# Altium footprint library Inductors THD.PcbLib: 25 footprints (part 2 of 3)
Each footprint in its own frame and in the unit in brackets; x right, y up, seen from the top. Pads: shape width x height; smd on the part's side, far side on the other; paste and mask are expansions set on the pad; w line width, h text height; cw(c..) or ccw(c..) is an arc to the next point about the centre after c.
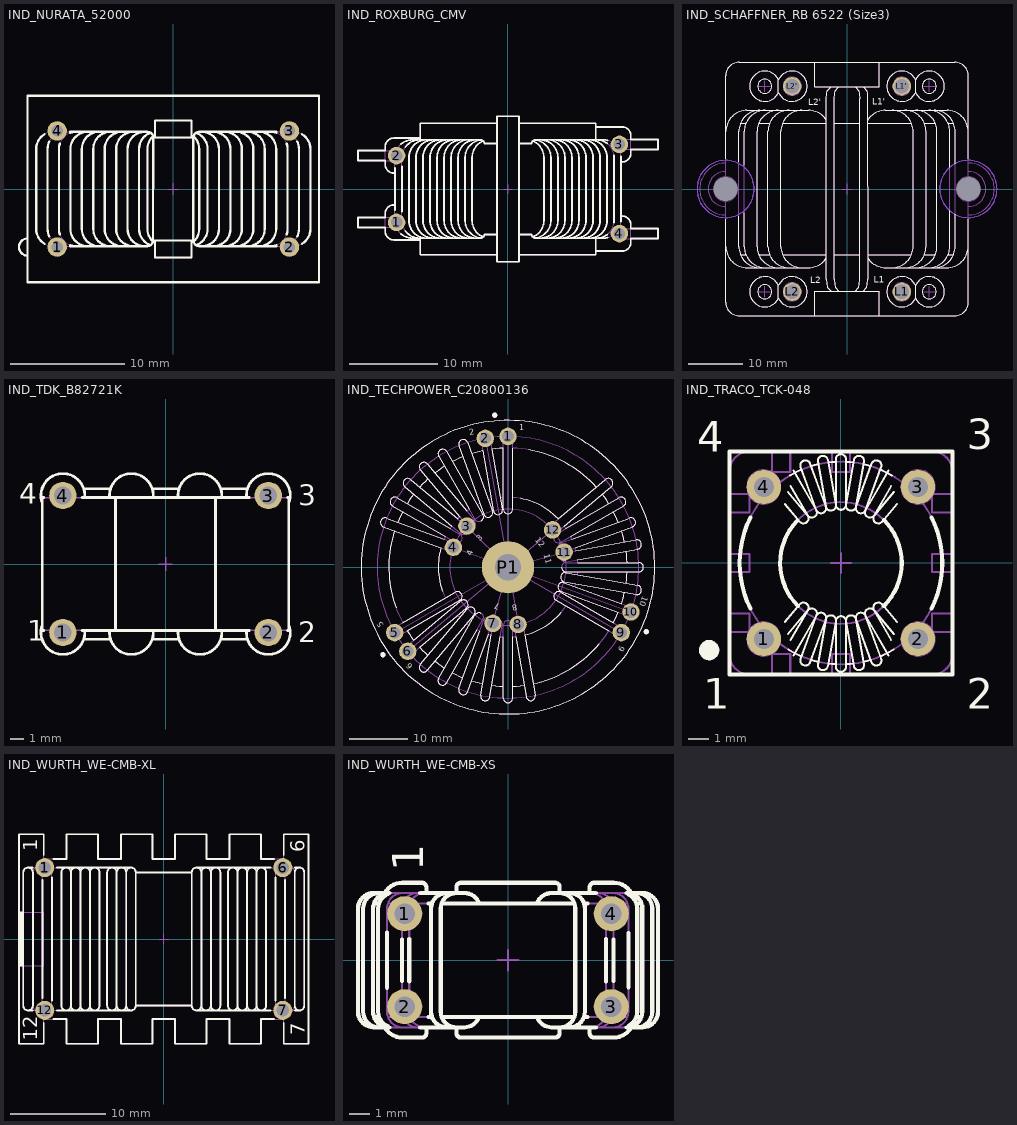
[diagram p1: the footprints below, top view; thin cyan lines are the x and y axes]

## IND_NURATA_52000 [mm] "PCB Mounted Common Mode Chokes, Body L 25.5mm x W 16.3mm x H 31mm"
height 31
pads (4):
  round 1.7 hole 1: 1(-10.16,-5.08) 2(10.16,-5.08) 3(10.16,5.08) 4(-10.16,5.08)
Top Overlay:
  lines w0.2: -12.75,-5.83 cw(c-12.75,-5.08) -12.75,-4.33 ; -11.272,-4.786 cw(c-10.5,-3.5) -12,-3.5 -12,3.5 cw(c-10.5,3.5) -11.272,4.786 ; -10.848,-4.158 cw(c-9.5,-3.5) -11,-3.5 -11,3.5 cw(c-9.5,3.5) -10.848,4.158 ; -9.93,-3.953 cw(c-8.5,-3.5) -10,-3.5 -10,3.5 cw(c-8.5,3.5) -9.93,3.953 ; -9.023,-4.906 ccw(c-8.5,-3.5) -8.5,-5 ; -9.023,4.906 cw(c-8.5,3.5) -8.5,5 ; -9.013,-5 -2.266,-5 ccw(c-2.266,-4.5) -1.766,-4.501 -1.752,4.499 ; -9.013,5 -2.252,5 cw(c-2.252,4.5) -1.752,4.499 ; -7.5,-5 cw(c-7.5,-3.5) -9,-3.5 -9,3.5 cw(c-7.5,3.5) -7.5,5 ; -6.5,-5 cw(c-6.5,-3.5) -8,-3.5 -8,3.5 cw(c-6.5,3.5) -6.5,5 ; -5.5,-5 cw(c-5.5,-3.5) -7,-3.5 -7,3.5 cw(c-5.5,3.5) -5.5,5 ; -4.5,-5 cw(c-4.5,-3.5) -6,-3.5 -6,3.5 cw(c-4.5,3.5) -4.5,5 ; -3.5,-5 cw(c-3.5,-3.5) -5,-3.5 -5,3.5 cw(c-3.5,3.5) -3.5,5 ; -2.819,-4.966 cw(c-2.5,-3.5) -4,-3.5 -4,3.5 cw(c-2.5,3.5) -2.811,4.967 ; -1.991,-4.918 cw(c-1.5,-3.5) -3,-3.5 -3,3.5 cw(c-1.5,3.5) -1.982,4.92 ; -1.777,-4.606 cw(c-0.764,-3.5) -2.264,-3.5 -2.264,3.5 cw(c-0.764,3.5) -1.766,4.616 ; -1.766,-4.5 1.759,-4.5 ; -1.6,-4.5 -1.6,-6 1.6,-6 1.6,-4.5 ; -1.6,4.5 -1.6,6 1.6,6 1.6,4.5 ; 1.773,-4.617 ccw(c0.772,-3.5) 2.272,-3.5 2.272,3.5 ccw(c0.772,3.5) 1.773,4.617 ; 1.986,-4.919 ccw(c1.5,-3.5) 3,-3.5 3,3.5 ccw(c1.5,3.5) 1.986,4.919 ; 2.81,-4.968 ccw(c2.5,-3.5) 4,-3.5 4,3.5 ccw(c2.5,3.5) 2.81,4.968 ; 3.5,-5 ccw(c3.5,-3.5) 5,-3.5 5,3.5 ccw(c3.5,3.5) 3.5,5 ; 4.5,-5 ccw(c4.5,-3.5) 6,-3.5 6,3.5 ccw(c4.5,3.5) 4.5,5 ; 5.5,-5 ccw(c5.5,-3.5) 7,-3.5 7,3.5 ccw(c5.5,3.5) 5.5,5 ; 6.5,-5 ccw(c6.5,-3.5) 8,-3.5 8,3.5 ccw(c6.5,3.5) 6.5,5 ; 7.5,-5 ccw(c7.5,-3.5) 9,-3.5 9,3.5 ccw(c7.5,3.5) 7.5,5 ; 8.5,-5 ccw(c8.5,-3.5) 9.023,-4.906 ; 8.5,5 cw(c8.5,3.5) 9.023,4.906 ; 9.013,-5 2.259,-5 cw(c2.259,-4.5) 1.759,-4.5 ; 9.013,5 2.259,5 ccw(c2.259,4.5) 1.759,4.5 ; 9.93,-3.953 ccw(c8.5,-3.5) 10,-3.5 10,3.5 ccw(c8.5,3.5) 9.93,3.953 ; 10.848,-4.158 ccw(c9.5,-3.5) 11,-3.5 11,3.5 ccw(c9.5,3.5) 10.848,4.158 ; 11.272,-4.786 ccw(c10.5,-3.5) 12,-3.5 12,3.5 ccw(c10.5,3.5) 11.272,4.786 ; -1.752,4.5 1.759,4.5 ; 1.759,-4.5 1.759,4.5 ; -12.75,-8.15 -12.75,8.15 12.75,8.15 12.75,-8.15 -12.75,-8.15
Mechanical 8:
  lines w0.1: -10.66,-5.08 -10.16,-5.08 ; -10.66,5.08 -10.16,5.08 ; -10.16,-5.58 -10.16,-5.08 ; -10.16,-4.58 -10.16,-5.08 ; -10.16,4.58 -10.16,5.08 ; -10.16,5.58 -10.16,5.08 ; -9.66,-5.08 -10.16,-5.08 ; -9.66,5.08 -10.16,5.08 ; -0.5,0 0,0 ; 0,-0.5 0,0 ; 0,0.5 0,0 ; 0.5,0 0,0 ; 9.66,-5.08 10.16,-5.08 ; 9.66,5.08 10.16,5.08 ; 10.16,-5.58 10.16,-5.08 ; 10.16,-4.58 10.16,-5.08 ; 10.16,4.58 10.16,5.08 ; 10.16,5.58 10.16,5.08 ; 10.66,-5.08 10.16,-5.08 ; 10.66,5.08 10.16,5.08
Mechanical 14:
  lines w0.1: -12.75,-5.83 cw(c-12.75,-5.08) -12.75,-4.33 ; -9.5,-5 cw(c-9.5,-3.5) -11,-3.5 -11,3.5 cw(c-9.5,3.5) -9.5,5 ; -8.5,-5 cw(c-8.5,-3.5) -10,-3.5 -10,3.5 cw(c-8.5,3.5) -8.5,5 ; -7.5,-5 cw(c-7.5,-3.5) -9,-3.5 -9,3.5 cw(c-7.5,3.5) -7.5,5 ; -6.5,-5 cw(c-6.5,-3.5) -8,-3.5 -8,3.5 cw(c-6.5,3.5) -6.5,5 ; -5.5,-5 cw(c-5.5,-3.5) -7,-3.5 -7,3.5 cw(c-5.5,3.5) -5.5,5 ; -4.5,-5 cw(c-4.5,-3.5) -6,-3.5 -6,3.5 cw(c-4.5,3.5) -4.5,5 ; -3.5,-5 cw(c-3.5,-3.5) -5,-3.5 -5,3.5 cw(c-3.5,3.5) -3.5,5 ; -2.819,-4.966 cw(c-2.5,-3.5) -4,-3.5 -4,3.5 cw(c-2.5,3.5) -2.811,4.967 ; -1.991,-4.918 cw(c-1.5,-3.5) -3,-3.5 -3,3.5 cw(c-1.5,3.5) -1.982,4.92 ; -1.777,-4.606 cw(c-0.764,-3.5) -2.264,-3.5 -2.264,3.5 cw(c-0.764,3.5) -1.766,4.616 ; -1.766,-4.5 1.759,-4.5 ; -1.6,-4.5 -1.6,-6 1.6,-6 1.6,-4.5 ; -1.6,4.5 -1.6,6 1.6,6 1.6,4.5 ; 1.773,-4.617 ccw(c0.772,-3.5) 2.272,-3.5 2.272,3.5 ccw(c0.772,3.5) 1.773,4.617 ; 1.986,-4.919 ccw(c1.5,-3.5) 3,-3.5 3,3.5 ccw(c1.5,3.5) 1.986,4.919 ; 2.81,-4.968 ccw(c2.5,-3.5) 4,-3.5 4,3.5 ccw(c2.5,3.5) 2.81,4.968 ; 3.5,-5 ccw(c3.5,-3.5) 5,-3.5 5,3.5 ccw(c3.5,3.5) 3.5,5 ; 4.5,-5 ccw(c4.5,-3.5) 6,-3.5 6,3.5 ccw(c4.5,3.5) 4.5,5 ; 5.5,-5 ccw(c5.5,-3.5) 7,-3.5 7,3.5 ccw(c5.5,3.5) 5.5,5 ; 6.5,-5 ccw(c6.5,-3.5) 8,-3.5 8,3.5 ccw(c6.5,3.5) 6.5,5 ; 7.5,-5 ccw(c7.5,-3.5) 9,-3.5 9,3.5 ccw(c7.5,3.5) 7.5,5 ; 8.5,-5 ccw(c8.5,-3.5) 10,-3.5 10,3.5 ccw(c8.5,3.5) 8.5,5 ; 9.5,-5 ccw(c9.5,-3.5) 11,-3.5 11,3.5 ccw(c9.5,3.5) 9.5,5 ; -1.752,4.499 ccw(c-2.252,4.5) -2.252,5 -10.5,5 ccw(c-10.5,3.5) -12,3.5 -12,-3.5 ccw(c-10.5,-3.5) -10.5,-5 -2.266,-5 ccw(c-2.266,-4.5) -1.766,-4.501 -1.752,4.499 ; -1.752,4.5 1.759,4.5 ; 1.759,-4.5 ccw(c2.259,-4.5) 2.259,-5 10.5,-5 ccw(c10.5,-3.5) 12,-3.5 12,3.5 ccw(c10.5,3.5) 10.5,5 2.259,5 ccw(c2.259,4.5) 1.759,4.5 ; 1.759,-4.5 1.759,4.5 ; -12.75,-8.15 -12.75,8.15 12.75,8.15 12.75,-8.15 -12.75,-8.15
3D body "IND_NURATA_52000.stp": height 31, standoff -3.35, extent -13.5,-8.15 12.75,8.15

## IND_ROXBURG_CMV [mm] "PCB Mounted Common Mode Chokes Body L 34mm x W 17mm x H 31mm"
height 32
pads (4):
  round 2 hole 1.3: 1(-12.7,-3.81) 2(-12.7,3.81) 3(12.7,5.08) 4(12.7,-5.08)
Top Overlay:
  lines w0.2: -12.89,-2.423 -12.89,2.423 ; -12.89,-1.81 -13,-1.81 ccw(c-13,-2.81) -14,-2.81 -14,-3.24 -17.095,-3.24 -17.095,-4.38 -14,-4.38 -14,-4.81 ccw(c-13,-4.81) -13,-5.81 -10,-5.81 ; -12.89,1.81 -13,1.81 cw(c-13,2.81) -14,2.81 -14,3.24 -17.095,3.24 -17.095,4.38 -14,4.38 -14,4.81 cw(c-13,4.81) -13,5.81 -10,5.81 ; -12.195,-5.116 ccw(c-10.89,-3.6) -10.89,-5.6 -3.16,-5.6 ccw(c-3.16,-5.1) -2.67,-5.2 -1.25,-5.2 ; -12.195,5.116 cw(c-10.89,3.6) -10.89,5.6 -3.16,5.6 cw(c-3.16,5.1) -2.67,5.2 -1.25,5.2 ; -12.09,-2.55 -12.09,2.55 ; -11.699,-4.788 ccw(c-10.09,-3.6) -10.09,-5.6 ; -11.699,4.788 cw(c-10.09,3.6) -10.09,5.6 ; -10,-5.6 -10,-7.5 -1.25,-7.5 ; -10,5.6 -10,7.5 -1.25,7.5 ; -9.29,-5.6 cw(c-9.29,-3.6) -11.29,-3.6 -11.29,3.6 cw(c-9.29,3.6) -9.29,5.6 ; -8.49,-5.6 cw(c-8.49,-3.6) -10.49,-3.6 -10.49,3.6 cw(c-8.49,3.6) -8.49,5.6 ; -7.69,-5.6 cw(c-7.69,-3.6) -9.69,-3.6 -9.69,3.6 cw(c-7.69,3.6) -7.69,5.6 ; -6.89,-5.6 cw(c-6.89,-3.6) -8.89,-3.6 -8.89,3.6 cw(c-6.89,3.6) -6.89,5.6 ; -6.09,-5.6 cw(c-6.09,-3.6) -8.09,-3.6 -8.09,3.6 cw(c-6.09,3.6) -6.09,5.6 ; -5.29,-5.6 cw(c-5.29,-3.6) -7.29,-3.6 -7.29,3.6 cw(c-5.29,3.6) -5.29,5.6 ; -4.66,5.6 ccw(c-4.476,3.594) -6.49,3.6 -6.49,-3.6 ccw(c-4.49,-3.6) -4.49,-5.6 ; -3.69,-5.6 cw(c-3.69,-3.6) -5.69,-3.6 -5.69,3.6 cw(c-3.69,3.6) -3.69,5.6 ; -3.07,-5.592 cw(c-2.89,-3.6) -4.89,-3.6 -4.89,3.6 cw(c-2.89,3.6) -3.07,5.592 ; -2.82,5.466 ccw(c-2.076,3.594) -4.09,3.6 -4.09,-3.6 ccw(c-2.09,-3.6) -2.817,-5.463 ; 1.25,-7.5 10,-7.5 10,-5.6 ; 1.25,-5.2 2.67,-5.2 ccw(c3.16,-5.1) 3.16,-5.6 10.89,-5.6 ccw(c10.89,-3.6) 11.378,-5.54 ; 1.25,5.2 2.67,5.2 cw(c3.16,5.1) 3.16,5.6 10.89,5.6 cw(c10.89,3.6) 11.378,5.54 ; 1.25,7.5 10,7.5 10,5.6 ; 2.817,-5.463 ccw(c2.09,-3.6) 4.09,-3.6 4.09,3.6 ccw(c2.076,3.594) 2.82,5.466 ; 3.07,-5.592 ccw(c2.89,-3.6) 4.89,-3.6 4.89,3.6 ccw(c2.89,3.6) 3.07,5.592 ; 3.69,-5.6 ccw(c3.69,-3.6) 5.69,-3.6 5.69,3.6 ccw(c3.69,3.6) 3.69,5.6 ; 4.49,-5.6 ccw(c4.49,-3.6) 6.49,-3.6 6.49,3.6 ccw(c4.476,3.594) 4.66,5.6 ; 5.29,-5.6 ccw(c5.29,-3.6) 7.29,-3.6 7.29,3.6 ccw(c5.29,3.6) 5.29,5.6 ; 6.09,-5.6 ccw(c6.09,-3.6) 8.09,-3.6 8.09,3.6 ccw(c6.09,3.6) 6.09,5.6 ; 6.89,-5.6 ccw(c6.89,-3.6) 8.89,-3.6 8.89,3.6 ccw(c6.89,3.6) 6.89,5.6 ; 7.69,-5.6 ccw(c7.69,-3.6) 9.69,-3.6 9.69,3.6 ccw(c7.69,3.6) 7.69,5.6 ; 8.49,-5.6 ccw(c8.49,-3.6) 10.49,-3.6 10.49,3.6 ccw(c8.49,3.6) 8.49,5.6 ; 9.29,-5.6 ccw(c9.29,-3.6) 11.29,-3.6 11.29,3.6 ccw(c9.29,3.6) 9.29,5.6 ; 10,-7.08 13,-7.08 ccw(c13,-6.08) 14,-6.08 14,-5.65 17.096,-5.65 17.096,-4.51 14,-4.51 14,-4.08 ccw(c13,-4.08) 13,-3.08 12.9,-3.08 ; 10,7.08 13,7.08 cw(c13,6.08) 14,6.08 14,5.65 17.096,5.65 17.096,4.51 14,4.51 14,4.08 cw(c13,4.08) 13,3.08 12.9,3.08 ; 10.09,-5.6 ccw(c10.09,-3.6) 11.304,-5.189 ; 10.09,5.6 cw(c10.09,3.6) 11.304,5.189 ; 12.077,-3.826 ccw(c10.09,-3.6) 12.09,-3.6 12.09,3.6 ccw(c10.09,3.6) 12.077,3.826 ; 12.888,-3.693 ccw(c10.89,-3.6) 12.89,-3.6 12.89,3.6 ccw(c10.89,3.6) 12.888,3.693 ; -1.25,-8.3 1.25,-8.3 1.25,8.3 -1.25,8.3 -1.25,-8.3
Mechanical 8:
  lines w0.1: -13.2,-3.81 -12.7,-3.81 ; -13.2,3.81 -12.7,3.81 ; -12.7,-4.31 -12.7,-3.81 ; -12.7,-3.31 -12.7,-3.81 ; -12.7,3.31 -12.7,3.81 ; -12.7,4.31 -12.7,3.81 ; -12.2,-3.81 -12.7,-3.81 ; -12.2,3.81 -12.7,3.81 ; -0.5,0 0,0 ; 0,-0.5 0,0 ; 0,0.5 0,0 ; 0.5,0 0,0 ; 12.2,-5.08 12.7,-5.08 ; 12.2,5.08 12.7,5.08 ; 12.7,-5.58 12.7,-5.08 ; 12.7,-4.58 12.7,-5.08 ; 12.7,4.58 12.7,5.08 ; 12.7,5.58 12.7,5.08 ; 13.2,-5.08 12.7,-5.08 ; 13.2,5.08 12.7,5.08
Mechanical 14:
  lines w0.1: -12.89,-3.24 -17.095,-3.24 -17.095,-4.38 -12.732,-4.38 ; -12.89,-1.81 -13,-1.81 ccw(c-13,-2.81) -14,-2.81 -14,-4.81 ccw(c-13,-4.81) -13,-5.81 -10,-5.81 ; -12.89,1.81 -13,1.81 cw(c-13,2.81) -14,2.81 -14,4.81 cw(c-13,4.81) -13,5.81 -10,5.81 ; -12.89,3.24 -17.095,3.24 -17.095,4.38 -12.732,4.38 ; -10.09,-5.6 cw(c-10.09,-3.6) -12.09,-3.6 -12.09,3.6 cw(c-10.09,3.6) -10.09,5.6 ; -10,-5.6 -10,-7.5 -1.25,-7.5 ; -10,5.6 -10,7.5 -1.25,7.5 ; -9.29,-5.6 cw(c-9.29,-3.6) -11.29,-3.6 -11.29,3.6 cw(c-9.29,3.6) -9.29,5.6 ; -8.49,-5.6 cw(c-8.49,-3.6) -10.49,-3.6 -10.49,3.6 cw(c-8.49,3.6) -8.49,5.6 ; -7.69,-5.6 cw(c-7.69,-3.6) -9.69,-3.6 -9.69,3.6 cw(c-7.69,3.6) -7.69,5.6 ; -6.89,-5.6 cw(c-6.89,-3.6) -8.89,-3.6 -8.89,3.6 cw(c-6.89,3.6) -6.89,5.6 ; -6.09,-5.6 cw(c-6.09,-3.6) -8.09,-3.6 -8.09,3.6 cw(c-6.09,3.6) -6.09,5.6 ; -5.29,-5.6 cw(c-5.29,-3.6) -7.29,-3.6 -7.29,3.6 cw(c-5.29,3.6) -5.29,5.6 ; -4.66,5.6 ccw(c-4.476,3.594) -6.49,3.6 -6.49,-3.6 ccw(c-4.49,-3.6) -4.49,-5.6 ; -3.69,-5.6 cw(c-3.69,-3.6) -5.69,-3.6 -5.69,3.6 cw(c-3.69,3.6) -3.69,5.6 ; -3.07,-5.592 cw(c-2.89,-3.6) -4.89,-3.6 -4.89,3.6 cw(c-2.89,3.6) -3.07,5.592 ; -2.82,5.466 ccw(c-2.076,3.594) -4.09,3.6 -4.09,-3.6 ccw(c-2.09,-3.6) -2.817,-5.463 ; -1.25,-5.2 -2.67,-5.2 cw(c-3.16,-5.1) -3.16,-5.6 -10.89,-5.6 cw(c-10.89,-3.6) -12.89,-3.6 -12.89,3.6 cw(c-10.89,3.6) -10.89,5.6 -3.16,5.6 cw(c-3.16,5.1) -2.67,5.2 -1.25,5.2 ; 1.25,-7.5 10,-7.5 10,-5.6 ; 1.25,-5.2 2.67,-5.2 ccw(c3.16,-5.1) 3.16,-5.6 10.89,-5.6 ccw(c10.89,-3.6) 12.89,-3.6 12.89,3.6 ccw(c10.89,3.6) 10.89,5.6 3.16,5.6 ccw(c3.16,5.1) 2.67,5.2 1.25,5.2 ; 1.25,7.5 10,7.5 10,5.6 ; 2.817,-5.463 ccw(c2.09,-3.6) 4.09,-3.6 4.09,3.6 ccw(c2.076,3.594) 2.82,5.466 ; 3.07,-5.592 ccw(c2.89,-3.6) 4.89,-3.6 4.89,3.6 ccw(c2.89,3.6) 3.07,5.592 ; 3.69,-5.6 ccw(c3.69,-3.6) 5.69,-3.6 5.69,3.6 ccw(c3.69,3.6) 3.69,5.6 ; 4.49,-5.6 ccw(c4.49,-3.6) 6.49,-3.6 6.49,3.6 ccw(c4.476,3.594) 4.66,5.6 ; 5.29,-5.6 ccw(c5.29,-3.6) 7.29,-3.6 7.29,3.6 ccw(c5.29,3.6) 5.29,5.6 ; 6.09,-5.6 ccw(c6.09,-3.6) 8.09,-3.6 8.09,3.6 ccw(c6.09,3.6) 6.09,5.6 ; 6.89,-5.6 ccw(c6.89,-3.6) 8.89,-3.6 8.89,3.6 ccw(c6.89,3.6) 6.89,5.6 ; 7.69,-5.6 ccw(c7.69,-3.6) 9.69,-3.6 9.69,3.6 ccw(c7.69,3.6) 7.69,5.6 ; 8.49,-5.6 ccw(c8.49,-3.6) 10.49,-3.6 10.49,3.6 ccw(c8.49,3.6) 8.49,5.6 ; 9.29,-5.6 ccw(c9.29,-3.6) 11.29,-3.6 11.29,3.6 ccw(c9.29,3.6) 9.29,5.6 ; 10,-7.08 13,-7.08 ccw(c13,-6.08) 14,-6.08 14,-4.08 ccw(c13,-4.08) 13,-3.08 12.9,-3.08 ; 10,7.08 13,7.08 cw(c13,6.08) 14,6.08 14,4.08 cw(c13,4.08) 13,3.08 12.9,3.08 ; 10.09,-5.6 ccw(c10.09,-3.6) 12.09,-3.6 12.09,3.6 ccw(c10.09,3.6) 10.09,5.6 ; 12.51,-4.787 12.51,-5.65 17.096,-5.65 17.096,-4.51 12.681,-4.51 ; 12.51,4.787 12.51,5.65 17.096,5.65 17.096,4.51 12.681,4.51 ; -1.25,-8.3 1.25,-8.3 1.25,8.3 -1.25,8.3 -1.25,-8.3
3D body "IND_ROXBURG_CMV.stp": height 31, standoff -3.6, extent -17.095,-8.3 17.096,8.3

## IND_SCHAFFNER_RB 6522 (Size3) [mm] "PCB Mounted Common Mode Chokes, Body L 45mm x W 46.93mm x H 52mm"
height 52
pads (6):
  round 1 hole 4.5 unplated mask+1.75: 5(-22.5,0) 6(22.5,0)
  round 3.4 hole 2.7: L1(10.16,-19.05) L1'(10.16,19.05) L2(-10.16,-19.05) L2'(-10.16,19.05)
Bottom Layer keep-out:
  circle w0.1: c-22.5,0 r5.3
  circle w0.1: c22.5,0 r5.3
Top Overlay:
  circle w0.2: c15.24,19.05 r1.3
  circle w0.2: c-15.24,19.05 r1.3
  circle w0.2: c-15.24,-19.05 r1.3
  circle w0.2: c10.16,-19.05 r1.3
  circle w0.2: c15.24,-19.05 r1.3
  lines w0.2: -22.5,-5.6 -22.5,-20.965 ccw(c-20,-20.965) -20,-23.465 20,-23.465 ccw(c20,-20.965) 22.5,-20.965 22.5,-5.6 ; -22.5,5.6 -22.5,20.965 cw(c-20,20.965) -20,23.465 20,23.465 cw(c20,20.965) 22.5,20.965 22.5,5.6 ; -22.448,-5.6 -22.448,-10.665 ccw(c-18.548,-10.665) -18.548,-14.565 -7.098,-14.565 ccw(c-7.098,-10.665) -3.813,-12.766 ; -22.448,5.6 -22.448,10.665 cw(c-18.548,10.665) -18.548,14.565 -7.098,14.565 cw(c-7.098,10.665) -3.813,12.766 ; -20.048,-5.035 -20.048,-10.665 ccw(c-16.148,-10.665) -16.148,-14.565 ; -20.048,5.035 -20.048,10.665 cw(c-16.148,10.665) -16.148,14.565 ; -19.748,-12.165 -18.748,-12.165 ; -19.748,12.165 -18.748,12.165 ; -19.048,-4.41 -19.048,-10.665 ccw(c-15.148,-10.665) -15.148,-14.565 ; -19.048,4.41 -19.048,10.665 cw(c-15.148,10.665) -15.148,14.565 ; -16.348,-12.165 -14.348,-12.165 ; -16.348,12.165 -14.348,12.165 ; -12.748,-14.565 cw(c-12.748,-10.665) -16.648,-10.665 -16.648,10.665 cw(c-12.748,10.665) -12.748,14.565 ; -11.948,-12.165 -3.813,-12.165 ; -11.948,12.165 -3.813,12.165 ; -10.748,-14.565 cw(c-10.748,-10.665) -14.648,-10.665 -14.648,10.665 cw(c-10.748,10.665) -10.748,14.565 ; -8.348,-14.565 cw(c-8.348,-10.665) -12.248,-10.665 -12.248,10.665 cw(c-8.348,10.665) -8.348,14.565 ; -6,-23.465 -6,-18.965 6,-18.965 6,-23.465 ; -6,23.465 -6,18.965 6,18.965 6,23.465 ; -2.883,-18.965 -3.622,-18.216 -3.813,-16.743 -3.813,16.743 -3.759,17.699 -3.622,18.216 -2.883,18.965 ; -2.331,-12.165 2.331,-12.165 ; -2.331,12.165 2.331,12.165 ; -1.529,-18.965 -2.141,-18.216 -2.277,-17.699 -2.331,-16.743 -2.331,16.743 -2.277,17.699 -2.141,18.216 -1.529,18.965 ; 1.529,-18.965 2.141,-18.216 2.277,-17.699 2.331,-16.743 2.331,16.743 2.277,17.699 2.141,18.216 1.529,18.965 ; 3.01,-18.965 3.622,-18.216 3.759,-17.699 3.813,-16.743 3.759,17.699 3.622,18.216 3.01,18.965 ; 3.767,12.693 cw(c7.098,10.665) 7.098,14.565 18.548,14.565 cw(c18.548,10.665) 22.448,10.665 22.448,5.6 ; 3.768,12.165 11.948,12.165 ; 3.807,-12.757 ccw(c7.098,-10.665) 7.098,-14.565 18.548,-14.565 ccw(c18.548,-10.665) 22.448,-10.665 22.448,-5.6 ; 3.806,-12.165 11.948,-12.165 ; 8.348,-14.565 ccw(c8.348,-10.665) 12.248,-10.665 12.248,10.665 ccw(c8.348,10.665) 8.348,14.565 ; 10.748,-14.565 ccw(c10.748,-10.665) 14.648,-10.665 14.648,10.665 ccw(c10.748,10.665) 10.748,14.565 ; 12.748,-14.565 ccw(c12.748,-10.665) 16.648,-10.665 16.648,10.665 ccw(c12.748,10.665) 12.748,14.565 ; 14.348,-12.165 16.348,-12.165 ; 14.348,12.165 16.348,12.165 ; 15.148,-14.565 ccw(c15.148,-10.665) 19.048,-10.665 19.048,-4.022 ; 15.148,14.565 cw(c15.148,10.665) 19.048,10.665 19.048,4.022 ; 16.148,-14.565 ccw(c16.148,-10.665) 20.048,-10.665 20.048,-4.699 ; 16.148,14.565 cw(c16.148,10.665) 20.048,10.665 20.048,4.699 ; 18.748,-12.165 19.748,-12.165 ; 18.748,12.165 19.748,12.165 ; -12.7,-20.228 cw(c-15.24,-19.05) -12.7,-17.872 ; -12.7,-20.228 ccw(c-10.16,-19.05) -12.7,-17.872 ; -12.7,-20.228 -12.7,-17.872 ; -12.7,17.872 cw(c-15.24,19.05) -12.7,20.228 ; -12.7,17.872 ccw(c-10.16,19.05) -12.7,20.228 ; -12.7,17.872 -12.7,20.228 ; 12.7,-20.228 cw(c10.16,-19.05) 12.7,-17.872 ; 12.7,-20.228 ccw(c15.24,-19.05) 12.7,-17.872 ; 12.7,-20.228 12.7,-17.872 ; 12.7,17.872 ccw(c15.24,19.05) 12.7,20.228 ; 12.7,17.872 cw(c10.16,19.05) 12.7,20.228 ; 12.7,17.872 12.7,20.228
  text "L1'" at 4.7,15.6 h1.2
  text "L1" at 5,-17.4 h1.2
  text "L2'" at -7.2,15.5 h1.2
  text "L2" at -6.8,-17.5 h1.2
Mechanical 8:
  circle w0.1: c-10.16,19.05 r1.35
  circle w0.1: c10.16,19.05 r1.35
  circle w0.1: c10.16,-19.05 r1.35
  circle w0.1: c-10.16,-19.05 r1.35
  circle w0.1: c-22.5,0 r2.25
  circle w0.1: c22.5,0 r2.25
  circle w0.1: c-22.5,0 r5.3
  circle w0.1: c10.16,19.05 r1.7
  circle w0.1: c10.16,-19.05 r1.7
  circle w0.1: c-10.16,-19.05 r1.7
  circle w0.1: c-10.16,19.05 r1.7
  circle w0.1: c22.5,0 r5.3
  lines w0.1: -23.5,0 -22.5,0 ; -22.5,-1 -22.5,0 ; -22.5,1 -22.5,0 ; -21.5,0 -22.5,0 ; -16.24,-19.05 -15.24,-19.05 ; -16.24,19.05 -15.24,19.05 ; -15.24,-20.05 -15.24,-19.05 ; -15.24,-18.05 -15.24,-19.05 ; -15.24,18.05 -15.24,19.05 ; -15.24,20.05 -15.24,19.05 ; -14.24,-19.05 -15.24,-19.05 ; -14.24,19.05 -15.24,19.05 ; -11.16,-19.05 -10.16,-19.05 ; -11.16,19.05 -10.16,19.05 ; -10.16,-20.05 -10.16,-19.05 ; -10.16,-18.05 -10.16,-19.05 ; -10.16,18.05 -10.16,19.05 ; -10.16,20.05 -10.16,19.05 ; -9.16,-19.05 -10.16,-19.05 ; -9.16,19.05 -10.16,19.05 ; -1,0 0,0 ; 0,-1 0,0 ; 0,1 0,0 ; 1,0 0,0 ; 9.16,-19.05 10.16,-19.05 ; 9.16,19.05 10.16,19.05 ; 10.16,-20.05 10.16,-19.05 ; 10.16,-18.05 10.16,-19.05 ; 10.16,18.05 10.16,19.05 ; 10.16,20.05 10.16,19.05 ; 11.16,-19.05 10.16,-19.05 ; 11.16,19.05 10.16,19.05 ; 14.24,-19.05 15.24,-19.05 ; 14.24,19.05 15.24,19.05 ; 15.24,-20.05 15.24,-19.05 ; 15.24,-18.05 15.24,-19.05 ; 15.24,18.05 15.24,19.05 ; 15.24,20.05 15.24,19.05 ; 16.24,-19.05 15.24,-19.05 ; 16.24,19.05 15.24,19.05 ; 21.5,0 22.5,0 ; 22.5,-1 22.5,0 ; 22.5,1 22.5,0 ; 23.5,0 22.5,0
Mechanical 14:
  circle w0.1: c15.24,19.05 r1.3
  circle w0.1: c10.16,19.05 r1.3
  circle w0.1: c-10.16,19.05 r1.3
  circle w0.1: c-15.24,19.05 r1.3
  circle w0.1: c-10.16,-19.05 r1.3
  circle w0.1: c-15.24,-19.05 r1.3
  circle w0.1: c10.16,-19.05 r1.3
  circle w0.1: c15.24,-19.05 r1.3
  circle w0.1: c10.16,-19.05 r1.3
  lines w0.1: -22.5,-4.8 -22.5,-20.965 ccw(c-20,-20.965) -20,-23.465 20,-23.465 ccw(c20,-20.965) 22.5,-20.965 22.5,-4.8 ; -22.5,4.8 -22.5,20.965 cw(c-20,20.965) -20,23.465 20,23.465 cw(c20,20.965) 22.5,20.965 22.5,4.8 ; -22.448,-4.8 cw(c-22.5,0) -22.448,4.8 ; -22.448,-3.233 cw(c-22.5,0) -22.448,3.233 ; -19.748,-12.165 -18.748,-12.165 ; -19.748,12.165 -18.748,12.165 ; -16.348,-12.165 -14.348,-12.165 ; -16.348,12.165 -14.348,12.165 ; -16.148,-14.565 cw(c-16.148,-10.665) -20.048,-10.665 -20.048,10.665 cw(c-16.148,10.665) -16.148,14.565 ; -15.148,-14.565 cw(c-15.148,-10.665) -19.048,-10.665 -19.048,10.665 cw(c-15.148,10.665) -15.148,14.565 ; -12.748,-14.565 cw(c-12.748,-10.665) -16.648,-10.665 -16.648,10.665 cw(c-12.748,10.665) -12.748,14.565 ; -11.948,-12.165 -3.813,-12.165 ; -11.948,12.165 -3.813,12.165 ; -10.748,-14.565 cw(c-10.748,-10.665) -14.648,-10.665 -14.648,10.665 cw(c-10.748,10.665) -10.748,14.565 ; -8.348,-14.565 cw(c-8.348,-10.665) -12.248,-10.665 -12.248,10.665 cw(c-8.348,10.665) -8.348,14.565 ; -6,-23.465 -6,-18.965 6,-18.965 6,-23.465 ; -6,23.465 -6,18.965 6,18.965 6,23.465 ; -3.813,-12.766 cw(c-7.098,-10.665) -7.098,-14.565 -18.548,-14.565 cw(c-18.548,-10.665) -22.448,-10.665 -22.448,10.665 cw(c-18.548,10.665) -18.548,14.565 -7.098,14.565 cw(c-7.098,10.665) -3.813,12.766 ; -2.883,-18.965 -3.622,-18.216 -3.813,-16.743 -3.813,16.743 -3.759,17.699 -3.622,18.216 -2.883,18.965 ; -2.331,-12.165 2.331,-12.165 ; -2.331,12.165 2.331,12.165 ; -1.529,-18.965 -2.141,-18.216 -2.277,-17.699 -2.331,-16.743 -2.331,16.743 -2.277,17.699 -2.141,18.216 -1.529,18.965 ; 1.529,-18.965 2.141,-18.216 2.277,-17.699 2.331,-16.743 2.331,16.743 2.277,17.699 2.141,18.216 1.529,18.965 ; 3.01,-18.965 3.622,-18.216 3.759,-17.699 3.813,-16.743 3.759,17.699 3.622,18.216 3.01,18.965 ; 3.767,12.693 cw(c7.098,10.665) 7.098,14.565 18.548,14.565 cw(c18.548,10.665) 22.448,10.665 22.448,-10.665 cw(c18.548,-10.665) 18.548,-14.565 7.098,-14.565 cw(c7.098,-10.665) 3.807,-12.757 ; 3.768,12.165 11.948,12.165 ; 3.806,-12.165 11.948,-12.165 ; 8.348,-14.565 ccw(c8.348,-10.665) 12.248,-10.665 12.248,10.665 ccw(c8.348,10.665) 8.348,14.565 ; 10.748,-14.565 ccw(c10.748,-10.665) 14.648,-10.665 14.648,10.665 ccw(c10.748,10.665) 10.748,14.565 ; 12.748,-14.565 ccw(c12.748,-10.665) 16.648,-10.665 16.648,10.665 ccw(c12.748,10.665) 12.748,14.565 ; 14.348,-12.165 16.348,-12.165 ; 14.348,12.165 16.348,12.165 ; 15.148,-14.565 ccw(c15.148,-10.665) 19.048,-10.665 19.048,10.665 ccw(c15.148,10.665) 15.148,14.565 ; 16.148,-14.565 ccw(c16.148,-10.665) 20.048,-10.665 20.048,10.665 ccw(c16.148,10.665) 16.148,14.565 ; 18.748,-12.165 19.748,-12.165 ; 18.748,12.165 19.748,12.165 ; 22.448,-4.8 ccw(c22.5,0) 22.448,4.8 ; 22.448,-3.233 ccw(c22.5,0) 22.448,3.233 ; -12.7,-20.228 cw(c-15.24,-19.05) -12.7,-17.872 ; -12.7,-20.228 ccw(c-10.16,-19.05) -12.7,-17.872 ; -12.7,-20.228 -12.7,-17.872 ; -12.7,17.872 cw(c-15.24,19.05) -12.7,20.228 ; -12.7,17.872 ccw(c-10.16,19.05) -12.7,20.228 ; -12.7,17.872 -12.7,20.228 ; 12.7,-20.228 cw(c10.16,-19.05) 12.7,-17.872 ; 12.7,-20.228 ccw(c15.24,-19.05) 12.7,-17.872 ; 12.7,-20.228 12.7,-17.872 ; 12.7,17.872 ccw(c15.24,19.05) 12.7,20.228 ; 12.7,17.872 cw(c10.16,19.05) 12.7,20.228 ; 12.7,17.872 12.7,20.228
  text "L2" at -6.8,-17.5 h1.2
  text "L2'" at -7.2,15.5 h1.2
  text "L1" at 5,-17.4 h1.2
  text "L1'" at 4.7,15.6 h1.2
3D body "IND_SCHAFFNER_RB 6522 (Size3).stp": height 47.25, standoff -4.5, extent -27.3,-23.465 27.3,23.465

## IND_TDK_B82721K [mm] "Current-compensated ring core double choke, Body 18.2mm x 13.2mm, B82721K Series"
height 20.3
pads (4):
  round 2 hole 1.3: 1(-7.5,-5) 2(7.5,-5) 3(7.5,5) 4(-7.5,5)
Top Overlay:
  lines w0.2: -9,-4.443 ccw(c-7.5,-5) -5.907,-4.85 ; -9,4.443 cw(c-7.5,5) -5.907,4.85 ; -8.892,-4.85 -9,-4.85 -9,4.85 -8.892,4.85 ; -6.108,-4.85 6.108,-4.85 ; -6.108,4.85 6.108,4.85 ; -5.98,-5.5 -4.02,-5.5 ; -5.98,5.5 -4.02,5.5 ; -4.093,-4.85 ccw(c-2.5,-5) -0.907,-4.85 ; -4.093,4.85 cw(c-2.5,5) -0.907,4.85 ; -3.65,-4.85 -3.65,4.85 ; -0.98,-5.5 0.98,-5.5 ; -0.98,5.5 0.98,5.5 ; 0.907,-4.85 ccw(c2.5,-5) 4.093,-4.85 ; 0.907,4.85 cw(c2.5,5) 4.093,4.85 ; 3.65,-4.85 3.65,4.85 ; 4.02,-5.5 5.98,-5.5 ; 4.02,5.5 5.98,5.5 ; 5.907,-4.85 ccw(c7.5,-5) 9,-4.443 ; 5.907,4.85 cw(c7.5,5) 9,4.443 ; 8.892,-4.85 9,-4.85 9,4.85 8.892,4.85
  text "2" at 9.7,-5.7 h1.5
  text "3" at 9.7,4.3 h1.5
  text "4" at -10.7,4.4 h1.5
  text "1" at -10.1,-5.6 h1.5
Mechanical 8:
  lines w0.1: -8,-5 -7.5,-5 ; -8,5 -7.5,5 ; -7.5,-5.5 -7.5,-5 ; -7.5,-4.5 -7.5,-5 ; -7.5,4.5 -7.5,5 ; -7.5,5.5 -7.5,5 ; -7,-5 -7.5,-5 ; -7,5 -7.5,5 ; -0.5,0 0,0 ; 0,-0.5 0,0 ; 0,0.5 0,0 ; 0.5,0 0,0 ; 7,-5 7.5,-5 ; 7,5 7.5,5 ; 7.5,-5.5 7.5,-5 ; 7.5,-4.5 7.5,-5 ; 7.5,4.5 7.5,5 ; 7.5,5.5 7.5,5 ; 8,-5 7.5,-5 ; 8,5 7.5,5
Mechanical 14:
  lines w0.1: -9,-4.443 ccw(c-7.5,-5) -5.907,-4.85 ; -9,4.443 cw(c-7.5,5) -5.907,4.85 ; -5.98,-5.5 -4.02,-5.5 ; -5.98,5.5 -4.02,5.5 ; -4.093,-4.85 ccw(c-2.5,-5) -0.907,-4.85 ; -4.093,4.85 cw(c-2.5,5) -0.907,4.85 ; -3.65,-4.85 -3.65,4.85 ; -0.98,-5.5 0.98,-5.5 ; -0.98,5.5 0.98,5.5 ; 0.907,-4.85 ccw(c2.5,-5) 4.093,-4.85 ; 0.907,4.85 cw(c2.5,5) 4.093,4.85 ; 3.65,-4.85 3.65,4.85 ; 4.02,-5.5 5.98,-5.5 ; 4.02,5.5 5.98,5.5 ; 5.907,-4.85 ccw(c7.5,-5) 9,-4.443 ; 5.907,4.85 cw(c7.5,5) 9,4.443 ; -9,-4.85 9,-4.85 9,4.85 -9,4.85 -9,-4.85
  text "2" at 9.7,-5.7 h1.5
  text "3" at 9.7,4.3 h1.5
  text "4" at -10.7,4.4 h1.5
  text "1" at -10.1,-5.6 h1.5
3D body "IND_TDK_B82721K.stp": height 20.3, standoff -3, extent -9.093,-6.6 9.094,6.6

## IND_TECHPOWER_C20800136 [mm] "3-wire Common Mode Power Inductor"
height 45
pads (13):
  round 3 hole 2: 1(0,22.5) 2(-3.907,22.158) 3(-7.071,7.071) 4(-9.397,3.42) 5(-19.486,-11.25) 6(-17.236,-14.463) 7(-2.588,-9.659) 8(1.736,-9.848) 9(19.486,-11.25) 10(21.143,-7.695) 11(9.659,2.588) 12(7.66,6.428)
  round 9 hole 4.5: P1(0,0)
Top Overlay:
  circle w0.5: c23.791,-11.094 r0.2
  circle w0.5: c-21.503,-15.056 r0.2
  circle w0.5: c-2.288,26.15 r0.2
  circle w0.2: c0,0 r25.25
  lines w0.2: -19.523,6.254 ccw(c0,0) -19.264,-7.011 ; -18.975,7.758 cw(c0,0) -18.14,9.549 ; -18.14,-9.549 -9.06,-4.307 cw(c-8.66,-5) -8.26,-5.693 -17.34,-10.935 ccw(c0,0) -16.206,-12.554 -8.175,-5.815 cw(c-7.66,-6.428) -7.146,-7.041 -15.178,-13.78 ccw(c0,0) -13.78,-15.178 ; -17.34,10.935 cw(c0,0) -16.206,12.554 ; -15.178,13.78 cw(c0,0) -13.78,15.178 ; -12.554,-16.206 ccw(c0,0) -10.935,-17.34 ; -12.554,16.206 cw(c0,0) -10.935,17.34 ; -11.276,-4.104 cw(c0,0) -11.525,3.343 -21.417,6.944 cw(c-21.143,7.695) -20.869,8.447 -10.978,4.847 ; -10.769,5.294 -19.886,10.557 cw(c-19.486,11.25) -19.086,11.943 -9.969,6.679 ; -9.686,7.083 -17.75,13.85 cw(c-17.236,14.463) -16.722,15.076 -8.658,8.309 ; -9.549,-18.14 ccw(c0,0) -7.758,-18.975 ; -9.549,18.14 cw(c0,0) -7.758,18.975 ; -8.309,8.658 -15.076,16.722 cw(c-14.463,17.236) -13.85,17.75 -7.083,9.686 ; -6.679,9.969 -11.943,19.086 cw(c-11.25,19.486) -10.557,19.886 -4.307,9.06 cw(c-5,8.66) -4.6,7.967 ; -6.254,-19.523 ccw(c0,0) -4.345,-20.034 ; -6.254,19.523 cw(c0,0) -4.345,20.034 -2.524,9.709 ccw(c-1.736,9.848) -0.949,9.987 -2.769,20.312 cw(c0,0) -0.8,20.484 -0.8,10 ccw(c0,10) 0.8,10 0.8,20.484 ; -5.294,-10.769 -10.557,-19.886 cw(c-11.25,-19.486) -11.943,-19.086 -5.693,-8.26 cw(c-5,-8.66) -4.6,-7.967 ; -4.847,-10.978 -8.447,-20.869 ccw(c-7.695,-21.143) -6.944,-21.417 -3.343,-11.525 ; -2.867,-11.652 -4.695,-22.019 ccw(c-3.907,-22.158) -3.119,-22.297 -1.291,-11.93 ; -2.769,-20.312 ccw(c0,0) -0.8,-20.484 ; -0.8,-11.973 -0.8,-22.5 ccw(c0,-22.5) 0.8,-22.5 0.8,-11.973 ; 0.8,-20.484 ccw(c0,0) 2.769,-20.312 ; 1.291,-11.93 3.119,-22.297 ccw(c3.907,-22.158) 4.695,-22.019 2.867,-11.652 ccw(c0,0) 9.193,-7.713 ; 2.084,11.818 cw(c0,0) 8.658,8.309 16.722,15.076 cw(c17.236,14.463) 17.75,13.85 9.686,7.083 ; 3.56,20.189 cw(c0,0) 15.178,13.78 ; 4.345,-20.034 ccw(c0,0) 15.704,-13.177 ; 9.2,0 ccw(c10,0) 10,-0.8 22.5,-0.8 ccw(c22.5,0) 22.5,0.8 11.973,0.8 ; 9.969,6.679 19.086,11.943 cw(c19.486,11.25) 19.886,10.557 10.769,5.294 ; 10.978,4.847 20.869,8.447 cw(c21.143,7.695) 21.417,6.944 11.525,3.343 ; 11.652,2.867 22.019,4.695 cw(c22.158,3.907) 22.297,3.119 11.93,1.291 ; 16.206,12.554 cw(c0,0) 17.34,10.935 ; 17.34,-10.935 8.26,-5.693 cw(c8.66,-5) 9.06,-4.307 18.14,-9.549 ccw(c0,0) 18.975,-7.758 9.123,-4.172 cw(c9.397,-3.42) 9.671,-2.668 19.523,-6.254 ccw(c0,0) 20.034,-4.345 ; 18.14,9.549 cw(c0,0) 18.975,7.758 ; 19.523,6.254 cw(c0,0) 20.034,4.345 ; 20.312,-2.769 ccw(c0,0) 20.484,-0.8 ; 20.312,2.769 cw(c0,0) 20.484,0.8 ; -15.076,-16.722 ccw(c-14.463,-17.236) -13.85,-17.75 -5.815,-8.175 ccw(c-6.428,-7.66) -7.041,-7.146 -15.076,-16.722 ; -8.447,20.869 cw(c-7.695,21.143) -6.944,21.417 -2.668,9.671 cw(c-3.42,9.397) -4.172,9.123 -8.447,20.869 ; 9.709,-2.524 cw(c9.848,-1.736) 9.987,-0.949 22.297,-3.119 cw(c22.158,-3.907) 22.019,-4.695 9.709,-2.524
  text "4" at -6.245,1.847 h1
  text "3" at -4.858,4.334 h1
  text "12" at 4.574,4.661 h1
  text "11" at 6.149,2.165 h1
  text "8" at 1.473,-6.34 h1
  text "7" at -1.344,-6.369 h1
  text "1" at 1.902,23.579 h1
  text "2" at -6.598,22.734 h1
  text "5" at -21.247,-9.957 h1
  text "6" at -16.327,-17.004 h1
  text "9" at 19.264,-13.426 h1
  text "10" at 23.19,-4.894 h1
Mechanical 8:
  circle w0.1: c21.143,-7.695 r1
  circle w0.1: c19.486,-11.25 r1
  circle w0.1: c-19.486,-11.25 r1
  circle w0.1: c-17.236,-14.463 r1
  circle w0.1: c1.736,-9.848 r1
  circle w0.1: c-2.588,-9.659 r1
  circle w0.1: c-9.397,3.42 r1
  circle w0.1: c-7.071,7.071 r1
  circle w0.1: c-3.907,22.158 r1
  circle w0.1: c0,22.5 r1
  circle w0.1: c7.66,6.428 r1
  circle w0.1: c9.659,2.588 r1
  circle w0.1: c0,0 r22.5
  circle w0.1: c0,0 r10
  circle w0.1: c0,0 r2
  lines w0.1: -19.919,-11.5 -19.486,-11.25 ; -19.736,-10.817 -19.486,-11.25 ; -19.236,-11.683 -19.486,-11.25 ; -19.053,-11 -19.486,-11.25 ; -17.619,-14.784 -17.236,-14.463 ; -17.557,-14.08 -17.236,-14.463 ; -16.915,-14.846 -17.236,-14.463 ; -16.853,-14.141 -17.236,-14.463 ; -9.897,3.42 -9.397,3.42 ; -9.397,2.92 -9.397,3.42 ; -9.397,3.92 -9.397,3.42 ; -8.897,3.42 -9.397,3.42 ; -7.571,7.071 -7.071,7.071 ; -7.071,6.571 -7.071,7.071 ; -7.071,7.571 -7.071,7.071 ; -6.571,7.071 -7.071,7.071 ; -4.399,22.071 -3.907,22.158 ; -3.994,22.651 -3.907,22.158 ; -3.82,21.666 -3.907,22.158 ; -3.415,22.245 -3.907,22.158 ; -3.021,-9.909 -2.588,-9.659 ; -2.838,-9.226 -2.588,-9.659 ; -2.338,-10.092 -2.588,-9.659 ; -2.155,-9.409 -2.588,-9.659 ; -0.5,0 0,0 ; -0.5,22.5 0,22.5 ; 0,-0.5 0,0 ; 0,0.5 0,0 ; 0,22 0,22.5 ; 0,23 0,22.5 ; 0.5,0 0,0 ; 0.5,22.5 0,22.5 ; 1.303,-10.098 1.736,-9.848 ; 1.486,-9.415 1.736,-9.848 ; 1.986,-10.281 1.736,-9.848 ; 2.169,-9.598 1.736,-9.848 ; 7.227,6.678 7.66,6.428 ; 7.41,5.995 7.66,6.428 ; 7.91,6.861 7.66,6.428 ; 8.093,6.178 7.66,6.428 ; 9.226,2.838 9.659,2.588 ; 9.409,2.155 9.659,2.588 ; 9.909,3.021 9.659,2.588 ; 10.092,2.338 9.659,2.588 ; 19.053,-11 19.486,-11.25 ; 19.236,-11.683 19.486,-11.25 ; 19.736,-10.817 19.486,-11.25 ; 19.919,-11.5 19.486,-11.25 ; 20.673,-7.524 21.143,-7.695 ; 20.972,-8.165 21.143,-7.695 ; 21.314,-7.226 21.143,-7.695 ; 21.613,-7.866 21.143,-7.695 ; -19.486,-11.25 0,0 ; -17.236,-14.463 0,0 ; -9.397,3.42 0,0 ; -7.071,7.071 0,0 ; -3.907,22.158 0,0 ; -2.588,-9.659 0,0 ; 0,0 7.66,6.428 ; 0,0 9.659,2.588 ; 0,0 1.736,-9.848 ; 0,0 21.143,-7.695 ; 0,0 19.486,-11.25 ; 0,0 0,22.5
  text "12" at 6.872,6.589 h1
  text "11" at 9.047,2.942 h1
  text "8" at 1.994,-9.295 h1
  text "7" at -2.121,-9.267 h1
  text "4" at -9.064,2.873 h1
  text "3" at -6.98,6.455 h1
  text "10" at 20.879,-6.96 h1
  text "9" at 19.236,-10.682 h1
  text "6" at -16.631,-14.406 h1
  text "5" at -18.867,-11.321 h1
  text "2" at -4.182,21.602 h1
  text "1" at -0.25,22 h1
Mechanical 14:
  circle w0.5: c23.791,-11.094 r0.2
  circle w0.5: c-21.503,-15.056 r0.2
  circle w0.5: c-2.288,26.15 r0.2
  circle w0.1: c0,0 r2
  circle w0.1: c0,0 r25.25
  lines w0.1: -19.523,6.254 ccw(c0,0) -18.14,-9.549 ; -18.975,7.758 cw(c0,0) -18.14,9.549 ; -17.34,-10.935 ccw(c0,0) -16.206,-12.554 ; -17.34,10.935 cw(c0,0) -16.206,12.554 ; -15.178,-13.78 ccw(c0,0) -13.78,-15.178 ; -15.178,13.78 cw(c0,0) -13.78,15.178 ; -12.554,-16.206 ccw(c0,0) -10.935,-17.34 ; -12.554,16.206 cw(c0,0) -10.935,17.34 ; -11.525,3.343 ccw(c0,0) -10.769,-5.294 ; -10.978,4.847 cw(c0,0) -10.769,5.294 ; -9.969,-6.679 ccw(c0,0) -9.686,-7.083 ; -9.969,6.679 cw(c0,0) -9.686,7.083 ; -9.549,-18.14 ccw(c0,0) -7.758,-18.975 ; -9.549,18.14 cw(c0,0) -7.758,18.975 ; -8.658,-8.309 ccw(c0,0) -8.309,-8.658 ; -8.658,8.309 cw(c0,0) -8.309,8.658 ; -7.083,-9.686 ccw(c0,0) -6.679,-9.969 ; -7.083,9.686 cw(c0,0) -6.679,9.969 ; -6.254,-19.523 ccw(c0,0) -4.345,-20.034 ; -6.254,19.523 cw(c0,0) -4.345,20.034 ; -5.294,-10.769 ccw(c0,0) -4.847,-10.978 ; -5.294,10.769 cw(c0,0) -4.847,10.978 ; -3.343,-11.525 ccw(c0,0) -2.867,-11.652 ; -3.343,11.525 cw(c0,0) -2.867,11.652 ; -2.769,-20.312 ccw(c0,0) -0.8,-20.484 ; -2.769,20.312 cw(c0,0) -0.8,20.484 ; -1.291,-11.93 ccw(c0,0) -0.8,-11.973 ; -1.291,11.93 cw(c0,0) -0.8,11.973 ; 0.8,-20.484 ccw(c0,0) 2.769,-20.312 ; 0.8,-11.973 ccw(c0,0) 1.291,-11.93 ; 0.8,11.973 cw(c0,0) 8.658,8.309 ; 0.8,20.484 cw(c0,0) 15.178,13.78 ; 2.867,-11.652 ccw(c0,0) 9.969,-6.679 ; 4.345,-20.034 ccw(c0,0) 17.34,-10.935 ; 9.686,7.083 cw(c0,0) 9.969,6.679 ; 10.769,-5.294 ccw(c0,0) 10.978,-4.847 ; 10.769,5.294 cw(c0,0) 10.978,4.847 ; 11.525,-3.343 ccw(c0,0) 11.652,-2.867 ; 11.525,3.343 cw(c0,0) 11.652,2.867 ; 11.93,-1.291 ccw(c0,0) 11.973,-0.8 ; 11.93,1.291 cw(c0,0) 11.973,0.8 ; 16.206,12.554 cw(c0,0) 17.34,10.935 ; 18.14,-9.549 ccw(c0,0) 18.975,-7.758 ; 18.14,9.549 cw(c0,0) 18.975,7.758 ; 19.523,-6.254 ccw(c0,0) 20.034,-4.345 ; 19.523,6.254 cw(c0,0) 20.034,4.345 ; 20.312,-2.769 ccw(c0,0) 20.484,-0.8 ; 20.312,2.769 cw(c0,0) 20.484,0.8 ; -21.417,6.944 cw(c-21.143,7.695) -20.869,8.447 -9.123,4.172 cw(c-9.397,3.42) -9.671,2.668 -21.417,6.944 ; -19.886,-10.557 ccw(c-19.486,-11.25) -19.086,-11.943 -8.26,-5.693 ccw(c-8.66,-5) -9.06,-4.307 -19.886,-10.557 ; -19.886,10.557 cw(c-19.486,11.25) -19.086,11.943 -8.26,5.693 cw(c-8.66,5) -9.06,4.307 -19.886,10.557 ; -17.75,-13.85 ccw(c-17.236,-14.463) -16.722,-15.076 -7.146,-7.041 ccw(c-7.66,-6.428) -8.175,-5.815 -17.75,-13.85 ; -17.75,13.85 cw(c-17.236,14.463) -16.722,15.076 -7.146,7.041 cw(c-7.66,6.428) -8.175,5.815 -17.75,13.85 ; -15.076,-16.722 ccw(c-14.463,-17.236) -13.85,-17.75 -5.815,-8.175 ccw(c-6.428,-7.66) -7.041,-7.146 -15.076,-16.722 ; -15.076,16.722 cw(c-14.463,17.236) -13.85,17.75 -5.815,8.175 cw(c-6.428,7.66) -7.041,7.146 -15.076,16.722 ; -11.943,-19.086 ccw(c-11.25,-19.486) -10.557,-19.886 -4.307,-9.06 ccw(c-5,-8.66) -5.693,-8.26 -11.943,-19.086 ; -11.943,19.086 cw(c-11.25,19.486) -10.557,19.886 -4.307,9.06 cw(c-5,8.66) -5.693,8.26 -11.943,19.086 ; -8.447,-20.869 ccw(c-7.695,-21.143) -6.944,-21.417 -2.668,-9.671 ccw(c-3.42,-9.397) -4.172,-9.123 -8.447,-20.869 ; -8.447,20.869 cw(c-7.695,21.143) -6.944,21.417 -2.668,9.671 cw(c-3.42,9.397) -4.172,9.123 -8.447,20.869 ; -4.695,-22.019 ccw(c-3.907,-22.158) -3.119,-22.297 -0.949,-9.987 ccw(c-1.736,-9.848) -2.524,-9.709 -4.695,-22.019 ; -4.695,22.019 cw(c-3.907,22.158) -3.119,22.297 -0.949,9.987 cw(c-1.736,9.848) -2.524,9.709 -4.695,22.019 ; -0.8,-22.5 ccw(c0,-22.5) 0.8,-22.5 0.8,-10 ccw(c0,-10) -0.8,-10 -0.8,-22.5 ; -0.8,10 ccw(c0,10) 0.8,10 0.8,22.5 ccw(c0,22.5) -0.8,22.5 -0.8,10 ; 0.949,-9.987 cw(c1.736,-9.848) 2.524,-9.709 4.695,-22.019 cw(c3.907,-22.158) 3.119,-22.297 0.949,-9.987 ; 7.146,7.041 ccw(c7.66,6.428) 8.175,5.815 17.75,13.85 ccw(c17.236,14.463) 16.722,15.076 7.146,7.041 ; 8.26,-5.693 cw(c8.66,-5) 9.06,-4.307 19.886,-10.557 cw(c19.486,-11.25) 19.086,-11.943 8.26,-5.693 ; 8.26,5.693 ccw(c8.66,5) 9.06,4.307 19.886,10.557 ccw(c19.486,11.25) 19.086,11.943 8.26,5.693 ; 9.123,-4.172 cw(c9.397,-3.42) 9.671,-2.668 21.417,-6.944 cw(c21.143,-7.695) 20.869,-8.447 9.123,-4.172 ; 9.123,4.172 ccw(c9.397,3.42) 9.671,2.668 21.417,6.944 ccw(c21.143,7.695) 20.869,8.447 9.123,4.172 ; 9.709,-2.524 cw(c9.848,-1.736) 9.987,-0.949 22.297,-3.119 cw(c22.158,-3.907) 22.019,-4.695 9.709,-2.524 ; 9.709,2.524 ccw(c9.848,1.736) 9.987,0.949 22.297,3.119 ccw(c22.158,3.907) 22.019,4.695 9.709,2.524 ; 10,-0.8 cw(c10,0) 10,0.8 22.5,0.8 cw(c22.5,0) 22.5,-0.8 10,-0.8
  text "4" at -6.245,1.847 h1
  text "3" at -4.858,4.334 h1
  text "12" at 4.574,4.661 h1
  text "11" at 6.149,2.165 h1
  text "8" at 1.473,-6.34 h1
  text "7" at -1.344,-6.369 h1
  text "1" at 1.902,23.579 h1
  text "2" at -6.598,22.734 h1
  text "5" at -21.247,-9.957 h1
  text "6" at -16.327,-17.004 h1
  text "9" at 19.264,-13.426 h1
  text "10" at 23.19,-4.894 h1
3D body "IND_TECHPOWER_C20800136.stp": height 40.3, standoff -4, extent -25.25,-25.224 25.25,25.225

## IND_TRACO_TCK-048 [mm] "Common Mode Choke TCK-048"
height 9.8
pads (4):
  round 1.7 hole 1: 1(-3.8,-3.75) 2(3.8,-3.75) 3(3.8,3.75) 4(-3.8,3.75)
Top Overlay:
  circle w0.5: c-6.5,-4.3 r0.25
  lines w0.1: -2.762,-2.904 -2.039,-2.042 cw(c-1.848,-2.202) -1.657,-2.363 -2.621,-3.512 ; -2.762,2.904 -2.039,2.042 ccw(c-1.848,2.202) -1.657,2.363 -2.621,3.512 ; -2.587,-4.279 ccw(c0,0) -1.943,-4.607 ; -2.513,4.323 cw(c0,0) -1.943,4.607 ; -2.48,-3.795 -1.654,-2.365 cw(c-1.438,-2.489) -1.221,-2.614 -2.347,-4.563 ; -2.48,3.795 -1.654,2.365 ccw(c-1.438,2.489) -1.221,2.614 -2.347,4.563 ; -1.473,-4.778 ccw(c0,0) -1.113,-4.874 ; -1.473,4.778 cw(c0,0) -1.113,4.874 ; -0.621,-4.961 ccw(c0,0) -0.25,-4.994 ; -0.621,4.961 cw(c0,0) -0.25,4.994 ; 0.25,-4.994 ccw(c0,0) 0.621,-4.961 ; 0.25,4.994 cw(c0,0) 0.621,4.961 ; 1.113,-4.875 ccw(c0,0) 1.473,-4.778 ; 1.113,4.875 cw(c0,0) 1.473,4.778 ; 1.942,-4.607 ccw(c0,0) 2.587,-4.279 ; 1.942,4.607 cw(c0,0) 2.513,4.323 ; 2.347,-4.563 1.221,-2.614 cw(c1.438,-2.489) 1.654,-2.365 2.48,-3.795 ; 2.347,4.563 1.221,2.614 ccw(c1.438,2.489) 1.654,2.365 2.48,3.795 ; 2.621,-3.512 1.657,-2.363 cw(c1.848,-2.202) 2.039,-2.042 2.762,-2.904 ; 2.621,3.512 1.657,2.363 ccw(c1.848,2.202) 2.039,2.042 2.762,2.904 ; -1.988,4.732 cw(c-1.751,4.809) -1.518,4.901 -0.749,2.787 cw(c-0.983,2.701) -1.218,2.616 -1.988,4.732 ; -1.987,-4.731 ccw(c-1.75,-4.809) -1.519,-4.903 -0.748,-2.787 ccw(c-0.983,-2.701) -1.218,-2.616 -1.987,-4.731 ; -1.136,5.005 cw(c-0.889,5.04) -0.644,5.091 -0.253,2.875 cw(c-0.499,2.831) -0.745,2.788 -1.136,5.005 ; -1.136,-5.004 ccw(c-0.888,-5.04) -0.644,-5.092 -0.253,-2.875 ccw(c-0.499,-2.831) -0.745,-2.788 -1.136,-5.004 ; -0.25,2.875 ccw(c0,2.875) 0.25,2.875 0.25,5.125 ccw(c0,5.117) -0.25,5.127 -0.25,2.875 ; -0.25,-5.125 ccw(c0,-5.117) 0.25,-5.127 0.25,-2.875 ccw(c0,-2.875) -0.25,-2.875 -0.25,-5.125 ; 0.253,2.875 ccw(c0.499,2.831) 0.745,2.788 1.136,5.004 ccw(c0.888,5.04) 0.644,5.092 0.253,2.875 ; 0.253,-2.875 cw(c0.499,-2.831) 0.745,-2.788 1.136,-5.005 cw(c0.889,-5.04) 0.644,-5.091 0.253,-2.875 ; 0.748,2.787 ccw(c0.983,2.701) 1.218,2.616 1.987,4.731 ccw(c1.75,4.809) 1.519,4.903 0.748,2.787 ; 0.749,-2.787 cw(c0.983,-2.701) 1.218,-2.616 1.988,-4.732 cw(c1.751,-4.809) 1.518,-4.901 0.749,-2.787
  lines w0.2: -4.465,-2.25 cw(c0,0) -4.465,2.25 ; -2.164,2.078 ccw(c0,0) -2.121,-2.121 ; 2.114,-2.129 ccw(c0,0) 2.12,2.123 ; 4.465,-2.25 ccw(c0,0) 4.465,2.25 ; -5.5,-5.5 5.5,-5.5 5.5,5.5 -5.5,5.5 -5.5,-5.5
  text "1" at -6.8,-7.2 h1.5
  text "3" at 6.2,5.6 h1.5
  text "2" at 6.2,-7.2 h1.5
  text "4" at -7.1,5.5 h1.5
Mechanical 8:
  circle w0.05: c-3.81,3.75 r0.85
  circle w0.05: c3.81,3.75 r0.85
  circle w0.05: c3.81,-3.75 r0.85
  circle w0.05: c-3.81,-3.75 r0.85
  lines w0.05: -4.31,-3.75 -3.81,-3.75 ; -4.31,3.75 -3.81,3.75 ; -3.81,-4.25 -3.81,-3.75 ; -3.81,-3.25 -3.81,-3.75 ; -3.81,3.25 -3.81,3.75 ; -3.81,4.25 -3.81,3.75 ; -3.31,-3.75 -3.81,-3.75 ; -3.31,3.75 -3.81,3.75 ; 3.31,-3.75 3.81,-3.75 ; 3.31,3.75 3.81,3.75 ; 3.81,-4.25 3.81,-3.75 ; 3.81,-3.25 3.81,-3.75 ; 3.81,3.25 3.81,3.75 ; 3.81,4.25 3.81,3.75 ; 4.31,-3.75 3.81,-3.75 ; 4.31,3.75 3.81,3.75
  lines w0.1: -0.5,0 0,0 ; 0,-0.5 0,0 ; 0,0.5 0,0 ; 0.5,0 0,0
Mechanical 14:
  circle w0.1: c0,0 r3
  circle w0.1: c0,0 r5
  lines w0.1: -5.5,-4.5 ccw(c-4.5,-4.5) -4.5,-5.5 -3.4,-5.5 -3.4,-4.5 -2.5,-4.5 -2.5,-5.5 -0.45,-5.5 -0.45,-4.5 0.45,-4.5 0.45,-5.5 4.5,-5.5 ccw(c4.5,-4.5) 5.5,-4.5 5.5,-3.4 4.5,-3.4 4.5,-2.5 5.5,-2.5 5.5,-0.45 4.5,-0.45 4.5,0.45 5.5,0.45 5.5,2.5 4.5,2.5 4.5,3.4 5.5,3.4 5.5,4.5 ccw(c4.5,4.5) 4.5,5.5 0.45,5.5 0.45,4.5 -0.45,4.5 -0.45,5.5 -2.5,5.5 -2.5,4.5 -3.4,4.5 -3.4,5.5 -4.5,5.5 ccw(c-4.5,4.5) -5.5,4.5 -5.5,3.4 -4.5,3.4 -4.5,2.5 -5.5,2.5 -5.5,0.45 -4.5,0.45 -4.5,-0.45 -5.5,-0.45 -5.5,-2.5 -4.5,-2.5 -4.5,-3.4 -5.5,-3.4 -5.5,-4.5
3D body "IND_TRACO_TCK-048.stp": height 9.86, standoff -3.6, extent -5.5,-5.5 5.5,5.5

## IND_WURTH_WE-CMB-XL [mm] "WURTH Common Mode Choke WE-CMB XL Series"
height 35
pads (4):
  round 2 hole 1.3: 1(-12.5,7.5) 6(12.5,7.5) 7(12.5,-7.5) 12(-12.5,-7.5)
Top Overlay:
  lines w0.2: -15.2,-2.8 -14.75,-2.8 ; -15.2,2.8 -14.75,2.8 ; -15,-2.8 -15,2.8 ; -14.9,-2.8 -14.9,2.8 ; -14.25,-7.5 -13.8,-7.5 ; -14.25,7.5 -13.8,7.5 ; -12.75,-6.224 -12.75,6.224 ; -12.6,-8.796 -12.6,-11 -15.2,-11 -15.2,11 -12.6,11 -12.6,8.796 ; -11.75,-6.438 -11.75,6.438 ; -11.562,-8.4 -10.2,-8.4 -10.2,-11 -6.9,-11 -6.9,-8.4 -4.5,-8.4 -4.5,-11 -1.2,-11 -1.2,-8.4 1.2,-8.4 1.2,-11 4.5,-11 4.5,-8.4 6.9,-8.4 6.9,-11 10.2,-11 10.2,-8.4 11.562,-8.4 ; -11.562,8.4 -10.2,8.4 -10.2,11 -6.9,11 -6.9,8.4 -4.5,8.4 -4.5,11 -1.2,11 -1.2,8.4 1.2,8.4 1.2,11 4.5,11 4.5,8.4 6.9,8.4 6.9,11 10.2,11 10.2,8.4 11.562,8.4 ; -11.2,-7.5 -3.442,-7.5 ; -11.2,7.5 -3.442,7.5 ; 3.442,-7.5 11.2,-7.5 ; 3.442,7.5 11.2,7.5 ; 11.75,-6.438 11.75,6.438 ; 12.6,-8.796 12.6,-11 15.2,-11 15.2,11 12.6,11 12.6,8.796 ; 12.75,-6.224 12.75,6.224 ; 13.8,-7.5 14.25,-7.5 ; 13.8,7.5 14.25,7.5 ; -9.75,-7 cw(c-10.25,-7) -10.75,-7 -10.75,7 cw(c-10.25,7) -9.75,7 ; -9.75,-7 ccw(c-9.25,-7) -8.75,-7 ; -9.75,-7 -9.75,7 ; -9.75,7 cw(c-9.25,7) -8.75,7 ; -8.75,-7 ccw(c-8.25,-7) -7.75,-7 ; -8.75,-7 -8.75,7 ; -8.75,7 cw(c-8.25,7) -7.75,7 ; -7.75,-7 ccw(c-7.25,-7) -6.75,-7 -6.75,7 ccw(c-7.25,7) -7.75,7 ; -7.75,-7 -7.75,7 ; -4.942,-7 cw(c-5.442,-7) -5.942,-7 -5.942,7 cw(c-5.442,7) -4.942,7 ; -4.942,-7 ccw(c-4.442,-7) -3.942,-7 ; -4.942,-7 -4.942,7 ; -4.942,7 cw(c-4.442,7) -3.942,7 ; -3.942,-7 ccw(c-3.442,-7) -2.942,-7 ; -3.942,-7 -3.942,7 ; -3.942,7 cw(c-3.442,7) -2.942,7 ; -2.942,-7 2.942,-7 ; -2.942,-7 -2.942,7 ; -2.942,7 2.942,7 ; 2.942,-7 ccw(c3.442,-7) 3.942,-7 ; 2.942,-7 2.942,7 ; 2.942,7 cw(c3.442,7) 3.942,7 ; 3.942,-7 ccw(c4.442,-7) 4.942,-7 ; 3.942,-7 3.942,7 ; 3.942,7 cw(c4.442,7) 4.942,7 ; 4.942,-7 ccw(c5.442,-7) 5.942,-7 5.942,7 ccw(c5.442,7) 4.942,7 ; 4.942,-7 4.942,7 ; 7.75,-7 cw(c7.25,-7) 6.75,-7 6.75,7 cw(c7.25,7) 7.75,7 ; 7.75,-7 ccw(c8.25,-7) 8.75,-7 ; 7.75,-7 7.75,7 ; 7.75,7 cw(c8.25,7) 8.75,7 ; 8.75,-7 ccw(c9.25,-7) 9.75,-7 ; 8.75,-7 8.75,7 ; 8.75,7 cw(c9.25,7) 9.75,7 ; 9.75,-7 ccw(c10.25,-7) 10.75,-7 10.75,7 ccw(c10.25,7) 9.75,7 ; 9.75,-7 9.75,7 ; -14.75,-7 ccw(c-14.25,-7) -13.75,-7 -13.75,7 ccw(c-14.25,7) -14.75,7 -14.75,-7 ; 13.75,-7 ccw(c14.25,-7) 14.75,-7 14.75,7 ccw(c14.25,7) 13.75,7 13.75,-7
  text "12" at -13.3,-10.7 h1.5
  text "1" at -13.3,9.2 h1.5
  text "7" at 14.8,-10.1 h1.5
  text "6" at 14.8,9.1 h1.5
Mechanical 8:
  lines w0.1: -13,-7.5 -12.5,-7.5 ; -13,7.5 -12.5,7.5 ; -12.5,-8 -12.5,-7.5 ; -12.5,-7 -12.5,-7.5 ; -12.5,7 -12.5,7.5 ; -12.5,8 -12.5,7.5 ; -12,-7.5 -12.5,-7.5 ; -12,7.5 -12.5,7.5 ; -0.5,0 0,0 ; 0,-0.5 0,0 ; 0,0.5 0,0 ; 0.5,0 0,0 ; 12,-7.5 12.5,-7.5 ; 12,7.5 12.5,7.5 ; 12.5,-8 12.5,-7.5 ; 12.5,-7 12.5,-7.5 ; 12.5,7 12.5,7.5 ; 12.5,8 12.5,7.5 ; 13,-7.5 12.5,-7.5 ; 12.5,7.5 13,7.5 12.5,7.5
Mechanical 14:
  lines w0.1: -15.2,-2.8 -12.6,-2.8 -12.6,2.8 -15.2,2.8 ; -14.25,-7.5 -3.442,-7.5 ; -14.25,7.5 -3.442,7.5 ; 3.442,-7.5 14.25,-7.5 ; 3.442,7.5 14.25,7.5 ; -13.75,-7 cw(c-14.25,-7) -14.75,-7 -14.75,7 cw(c-14.25,7) -13.75,7 ; -13.75,-7 ccw(c-13.25,-7) -12.75,-7 ; -13.75,-7 -13.75,7 ; -13.75,7 cw(c-13.25,7) -12.75,7 ; -12.75,-7 ccw(c-12.25,-7) -11.75,-7 ; -12.75,-7 -12.75,7 ; -12.75,-7 -12.75,7 ; -12.75,7 cw(c-12.25,7) -11.75,7 ; -11.75,-7 -11.75,7 ; -11.75,-7 -11.75,7 ; -10.75,-7 ccw(c-10.25,-7) -9.75,-7 ; -10.75,-7 -10.75,7 ; -10.75,-7 -10.75,7 ; -10.75,7 cw(c-10.25,7) -9.75,7 ; -9.75,-7 ccw(c-9.25,-7) -8.75,-7 ; -9.75,-7 -9.75,7 ; -9.75,-7 -9.75,7 ; -9.75,7 cw(c-9.25,7) -8.75,7 ; -8.75,-7 ccw(c-8.25,-7) -7.75,-7 ; -8.75,-7 -8.75,7 ; -8.75,-7 -8.75,7 ; -8.75,7 cw(c-8.25,7) -7.75,7 ; -7.75,-7 ccw(c-7.25,-7) -6.75,-7 -6.75,7 ccw(c-7.25,7) -7.75,7 ; -7.75,-7 -7.75,7 ; -7.75,-7 -7.75,7 ; -4.942,-7 cw(c-5.442,-7) -5.942,-7 -5.942,7 cw(c-5.442,7) -4.942,7 ; -4.942,-7 ccw(c-4.442,-7) -3.942,-7 ; -4.942,-7 -4.942,7 ; -4.942,7 cw(c-4.442,7) -3.942,7 ; -3.942,-7 ccw(c-3.442,-7) -2.942,-7 ; -3.942,-7 -3.942,7 ; -3.942,7 cw(c-3.442,7) -2.942,7 ; -2.942,-7 2.942,-7 ; -2.942,-7 -2.942,7 ; -2.942,7 2.942,7 ; 2.942,-7 ccw(c3.442,-7) 3.942,-7 ; 2.942,-7 2.942,7 ; 2.942,7 cw(c3.442,7) 3.942,7 ; 3.942,-7 ccw(c4.442,-7) 4.942,-7 ; 3.942,-7 3.942,7 ; 3.942,7 cw(c4.442,7) 4.942,7 ; 4.942,-7 ccw(c5.442,-7) 5.942,-7 5.942,7 ccw(c5.442,7) 4.942,7 ; 4.942,-7 4.942,7 ; 7.75,-7 cw(c7.25,-7) 6.75,-7 6.75,7 cw(c7.25,7) 7.75,7 ; 7.75,-7 ccw(c8.25,-7) 8.75,-7 ; 7.75,-7 7.75,7 ; 7.75,-7 7.75,7 ; 7.75,7 cw(c8.25,7) 8.75,7 ; 8.75,-7 ccw(c9.25,-7) 9.75,-7 ; 8.75,-7 8.75,7 ; 8.75,-7 8.75,7 ; 8.75,7 cw(c9.25,7) 9.75,7 ; 9.75,-7 ccw(c10.25,-7) 10.75,-7 ; 9.75,-7 9.75,7 ; 9.75,-7 9.75,7 ; 9.75,7 cw(c10.25,7) 10.75,7 ; 10.75,-7 10.75,7 ; 10.75,-7 10.75,7 ; 11.75,-7 ccw(c12.25,-7) 12.75,-7 ; 11.75,-7 11.75,7 ; 11.75,-7 11.75,7 ; 11.75,7 cw(c12.25,7) 12.75,7 ; 12.75,-7 ccw(c13.25,-7) 13.75,-7 ; 12.75,-7 12.75,7 ; 12.75,-7 12.75,7 ; 12.75,7 cw(c13.25,7) 13.75,7 ; 13.75,-7 ccw(c14.25,-7) 14.75,-7 14.75,7 ccw(c14.25,7) 13.75,7 ; 13.75,-7 13.75,7 ; -15.2,-11 -12.6,-11 -12.6,-8.4 -10.2,-8.4 -10.2,-11 -6.9,-11 -6.9,-8.4 -4.5,-8.4 -4.5,-11 -1.2,-11 -1.2,-8.4 1.2,-8.4 1.2,-11 4.5,-11 4.5,-8.4 6.9,-8.4 6.9,-11 10.2,-11 10.2,-8.4 12.6,-8.4 12.6,-11 15.2,-11 15.2,11 12.6,11 12.6,8.4 10.2,8.4 10.2,11 6.9,11 6.9,8.4 4.5,8.4 4.5,11 1.2,11 1.2,8.4 -1.2,8.4 -1.2,11 -4.5,11 -4.5,8.4 -6.9,8.4 -6.9,11 -10.2,11 -10.2,8.4 -12.6,8.4 -12.6,11 -15.2,11 -15.2,-11
  text "6" at 14.8,9.1 h1.5
  text "7" at 14.8,-10.1 h1.5
  text "1" at -13.3,9.2 h1.5
  text "12" at -13.3,-10.7 h1.5
3D body "IND_WURTH_WE-CMB-XL.stp": height 35, standoff -3.8, extent -15.2,-11 15.2,11

## IND_WURTH_WE-CMB-XS [mm] "WURTH Common Mode Choke WE-CMB XS Series"
height 18
pads (4):
  round 1.7 hole 1: 1(-5,2.25) 2(-5,-2.25) 3(5,-2.25) 4(5,2.25)
Top Overlay:
  lines w0.2: -6.487,-2.75 -6.244,-2.75 ; -6.487,2.75 -6.244,2.75 ; -6.26,-3.25 cw(c-6.26,-2.5) -7.01,-2.5 -7.01,2.5 cw(c-6.26,2.5) -6.26,3.25 ; -5.854,-1.338 -5.854,1.338 ; -5.817,-3.196 cw(c-5.537,-2.5) -6.287,-2.5 -6.287,2.5 cw(c-5.537,2.5) -5.817,3.196 ; -5.78,-3.25 cw(c-5.78,-2.5) -6.53,-2.5 -6.53,2.5 cw(c-5.78,2.5) -5.78,3.25 ; -5.75,-3.25 -6.51,-3.25 ; -5.75,3.25 -6.51,3.25 ; -5.134,-1.007 -5.134,1.007 ; -4.78,-1.02 -4.78,1.02 ; -4.25,-3.25 -2.113,-3.25 ccw(c-2.113,-2.5) -1.406,-2.75 ; -4.25,3.25 -2.109,3.25 cw(c-2.109,2.5) -1.402,2.75 ; -3.95,3.25 -3.95,3.525 ccw(c-4.175,3.525) -4.175,3.75 -5.1,3.75 ccw(c-5.1,2.75) -5.966,3.25 -6.51,3.25 ; -3.854,-2.75 -3.679,-2.75 ; -3.854,2.75 -3.679,2.75 ; -3.212,-2.75 3.217,-2.75 ; -3.212,2.75 3.217,2.75 ; -2.972,-3.25 cw(c-2.972,-2.5) -3.722,-2.5 -3.722,2.5 cw(c-2.972,2.5) -2.972,3.25 ; -2.505,-3.25 cw(c-2.505,-2.5) -3.255,-2.5 -3.255,2.5 cw(c-2.505,2.5) -2.505,3.25 ; -2.5,3.25 -2.5,3.525 cw(c-2.275,3.525) -2.275,3.75 2.275,3.75 cw(c2.275,3.525) 2.5,3.525 2.5,3.25 3.95,3.25 3.95,3.525 cw(c4.175,3.525) 4.175,3.75 5.1,3.75 cw(c5.1,2.75) 5.966,3.25 6.51,3.25 ; 1.406,-2.75 ccw(c2.113,-2.5) 2.113,-3.25 4.25,-3.25 ; 1.406,2.75 cw(c2.113,2.5) 2.113,3.25 4.25,3.25 ; 2.505,-3.25 ccw(c2.505,-2.5) 3.255,-2.5 3.255,2.5 ; 2.509,3.25 cw(c2.509,2.5) 3.259,2.499 ; 2.972,-3.25 ccw(c2.972,-2.5) 3.722,-2.5 3.722,2.5 ; 2.976,3.25 cw(c2.976,2.5) 3.726,2.499 ; 3.683,-2.75 3.854,-2.75 ; 3.683,2.75 3.854,2.75 ; 4.75,-1.025 4.75,1.025 ; 5.103,-1.004 5.103,1.004 ; 5.749,-3.25 ccw(c5.749,-2.5) 6.499,-2.5 6.499,2.5 ; 5.75,-3.25 6.51,-3.25 ; 5.75,3.25 6.51,3.25 ; 5.754,3.25 cw(c5.754,2.5) 6.504,2.499 ; 5.824,-1.31 5.824,1.31 ; 5.843,3.173 cw(c5.512,2.5) 6.262,2.499 ; 5.849,-3.168 ccw(c5.507,-2.5) 6.257,-2.5 6.257,2.5 ; 6.219,-2.75 6.461,-2.75 ; 6.219,2.75 6.461,2.75 ; 6.23,-3.25 ccw(c6.23,-2.5) 6.98,-2.5 6.98,2.5 ; 6.234,3.25 cw(c6.234,2.5) 6.984,2.499 ; -6.51,-3.25 cw(c-6.51,-2.5) -7.26,-2.5 -7.26,2.5 cw(c-6.51,2.5) -6.51,3.25 ; -6.51,-3.25 -5.966,-3.25 ccw(c-5.1,-2.75) -5.1,-3.75 -4.175,-3.75 ccw(c-4.175,-3.525) -3.95,-3.525 -3.95,-3.25 -2.5,-3.25 -2.5,-3.525 ccw(c-2.275,-3.525) -2.305,-3.748 2.275,-3.75 ccw(c2.275,-3.525) 2.5,-3.525 2.5,-3.25 3.95,-3.25 3.95,-3.525 ccw(c4.175,-3.525) 4.175,-3.75 5.1,-3.75 ccw(c5.1,-2.75) 5.966,-3.25 6.51,-3.25 ; 6.51,-3.25 ccw(c6.51,-2.5) 7.26,-2.5 7.26,2.5 ccw(c6.51,2.5) 6.51,3.25
  text "1" at -4.1,4.3 h1.5
Mechanical 8:
  lines w0.1: -5.5,-2.25 -5,-2.25 ; -5.5,2.25 -5,2.25 ; -5,-2.75 -5,-2.25 ; -5,-1.75 -5,-2.25 ; -5,1.75 -5,2.25 ; -5,2.75 -5,2.25 ; -4.5,-2.25 -5,-2.25 ; -4.5,2.25 -5,2.25 ; -0.5,0 0,0 ; 0,-0.5 0,0 ; 0,0.5 0,0 ; 0.5,0 0,0 ; 4.5,-2.25 5,-2.25 ; 4.5,2.25 5,2.25 ; 5,-2.75 5,-2.25 ; 5,-1.75 5,-2.25 ; 5,1.75 5,2.25 ; 5,2.75 5,2.25 ; 5.5,-2.25 5,-2.25 ; 5.5,2.25 5,2.25
Mechanical 14:
  lines w0.1: -6.487,-2.75 -6.244,-2.75 ; -6.487,2.75 -6.244,2.75 ; -6.26,-3.25 cw(c-6.26,-2.5) -7.01,-2.5 -7.01,2.5 cw(c-6.26,2.5) -6.26,3.25 ; -5.811,-2.75 -5.091,-2.75 ; -5.811,2.75 -5.091,2.75 ; -5.78,-3.25 cw(c-5.78,-2.5) -6.53,-2.5 -6.53,2.5 cw(c-5.78,2.5) -5.78,3.25 ; -5.537,-3.25 cw(c-5.537,-2.5) -6.287,-2.5 -6.287,2.5 cw(c-5.537,2.5) -5.537,3.25 ; -5.104,-3.25 cw(c-5.104,-2.5) -5.854,-2.5 -5.854,2.5 cw(c-5.104,2.5) -5.104,3.25 ; -4.737,-2.75 -3.679,-2.75 ; -4.737,2.75 -3.679,2.75 ; -4.384,-3.25 cw(c-4.384,-2.5) -5.134,-2.5 -5.134,2.5 cw(c-4.384,2.5) -4.384,3.25 ; -4.03,-3.25 cw(c-4.03,-2.5) -4.78,-2.5 -4.78,2.5 cw(c-4.03,2.5) -4.03,3.25 ; -3.95,3.25 -3.95,3.525 ccw(c-4.175,3.525) -4.175,3.75 -5.1,3.75 ccw(c-5.1,2.75) -5.966,3.25 -6.51,3.25 ; -3.212,-2.75 3.217,-2.75 ; -3.212,2.75 3.217,2.75 ; -2.972,-3.25 cw(c-2.972,-2.5) -3.722,-2.5 -3.722,2.5 cw(c-2.972,2.5) -2.972,3.25 ; -2.505,-3.25 cw(c-2.505,-2.5) -3.255,-2.5 -3.255,2.5 cw(c-2.505,2.5) -2.505,3.25 ; -2.5,3.25 -2.5,3.525 cw(c-2.275,3.525) -2.275,3.75 2.275,3.75 cw(c2.275,3.525) 2.5,3.525 2.5,3.25 3.95,3.25 3.95,3.525 cw(c4.175,3.525) 4.175,3.75 5.1,3.75 cw(c5.1,2.75) 5.966,3.25 6.51,3.25 ; -1.406,-2.75 cw(c-2.113,-2.5) -2.113,-3.25 -6.51,-3.25 ; -1.402,2.75 ccw(c-2.109,2.5) -2.109,3.25 -6.51,3.25 ; 1.406,-2.75 ccw(c2.113,-2.5) 2.113,-3.25 6.51,-3.25 ; 1.406,2.75 cw(c2.113,2.5) 2.113,3.25 6.51,3.25 ; 2.505,-3.25 ccw(c2.505,-2.5) 3.255,-2.5 3.255,2.5 ; 2.509,3.25 cw(c2.509,2.5) 3.259,2.499 ; 2.972,-3.25 ccw(c2.972,-2.5) 3.722,-2.5 3.722,2.5 ; 2.976,3.25 cw(c2.976,2.5) 3.726,2.499 ; 3.683,-2.75 4.711,-2.75 ; 3.683,2.75 4.711,2.75 ; 4,-3.25 ccw(c4,-2.5) 4.75,-2.5 4.75,2.5 ; 4.004,3.25 cw(c4.004,2.5) 4.754,2.499 ; 4.353,-3.25 ccw(c4.353,-2.5) 5.103,-2.5 5.103,2.5 ; 4.358,3.25 cw(c4.358,2.5) 5.108,2.499 ; 5.065,-2.75 5.786,-2.75 ; 5.065,2.75 5.786,2.75 ; 5.074,-3.25 ccw(c5.074,-2.5) 5.824,-2.5 5.824,2.5 ; 5.079,3.25 cw(c5.079,2.5) 5.829,2.499 ; 5.507,-3.25 ccw(c5.507,-2.5) 6.257,-2.5 6.257,2.5 ; 5.512,3.25 cw(c5.512,2.5) 6.262,2.499 ; 5.749,-3.25 ccw(c5.749,-2.5) 6.499,-2.5 6.499,2.5 ; 5.754,3.25 cw(c5.754,2.5) 6.504,2.499 ; 6.219,-2.75 6.461,-2.75 ; 6.219,2.75 6.461,2.75 ; 6.23,-3.25 ccw(c6.23,-2.5) 6.98,-2.5 6.98,2.5 ; 6.234,3.25 cw(c6.234,2.5) 6.984,2.499 ; -6.51,-3.25 cw(c-6.51,-2.5) -7.26,-2.5 -7.26,2.5 cw(c-6.51,2.5) -6.51,3.25 ; -6.51,-3.25 -5.966,-3.25 ccw(c-5.1,-2.75) -5.1,-3.75 -4.175,-3.75 ccw(c-4.175,-3.525) -3.95,-3.525 -3.95,-3.25 -2.5,-3.25 -2.5,-3.525 ccw(c-2.275,-3.525) -2.305,-3.748 2.275,-3.75 ccw(c2.275,-3.525) 2.5,-3.525 2.5,-3.25 3.95,-3.25 3.95,-3.525 ccw(c4.175,-3.525) 4.175,-3.75 5.1,-3.75 ccw(c5.1,-2.75) 5.966,-3.25 6.51,-3.25 ; 6.51,-3.25 ccw(c6.51,-2.5) 7.26,-2.5 7.26,2.5 ccw(c6.51,2.5) 6.51,3.25
  text "1" at -4.1,4.3 h1.5
3D body "IND_WURTH_WE-CMB-XS.stp": height 17.5, standoff -2.15, extent -7.26,-3.75 7.26,3.75